# EAGLE library part H11F3SVM (library SamacSys_Parts)
ON Semiconductor, H11F3SVM DC Input FET Output Optocoupler, Surface Mount, 6-Pin DIP Source: Datasheet <https://www.onsemi.com/pub/Collateral/H11F3M-D.pdf>
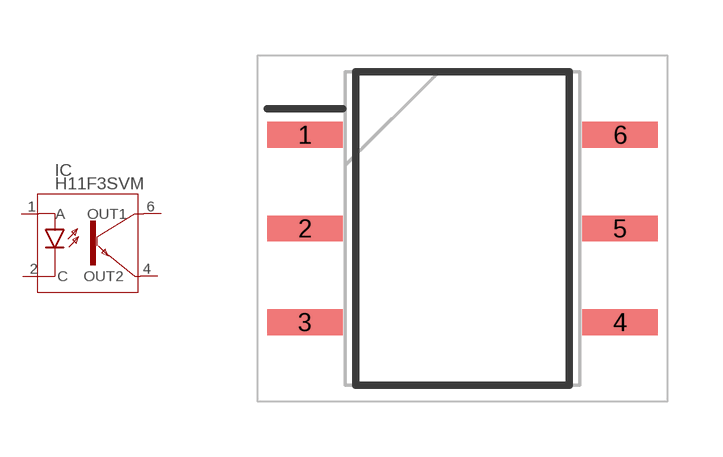
[diagram p18: symbol with the pads of SOP254P916X508-6N; footprint SOP254P916X508-6N]

Designator prefix IC

## H11F3SVM (DESCRIPTION: ON Semiconductor, H11F3SVM DC Input FET Output Optocoupler, Surface Mount, 6-Pin DIP; HEIGHT: 5.08mm; MANUFACTURER_NAME: ON Semiconductor; MANUFACTURER_PART_NUMBER: H11F3SVM; MOUSER_PART_NUMBER: 512-H11F3SVM; MOUSER_PRICE-STOCK: https://www.mouser.com/Search/Refine.aspx?Keyword=512-H11F3SVM; RS_PART_NUMBER: 8629280P; RS_PRICE-STOCK: http://uk.rs-online.com/web/p/products/8629280P)  [SOP254P916X508-6N]
1  A
2  C
3  P$1
4  OUT2
5  P$2
6  OUT1

## Footprint SOP254P916X508-6N (pad centres in mm)
H11F3SVM
smd 2.05 x 0.7: 1 -4.275,2.54; 2 -4.275,0; 3 -4.275,-2.54; 4 4.275,-2.54; 5 4.275,0; 6 4.275,2.54